# Altium integrated library 3 Pin Terminal Block HDR 5MM THT RA 231-433_001-000.IntLib: 1 symbol
Pins are listed as number, name and electrical type; pins without a type are passive.

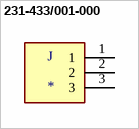
[diagram p0: symbol 231-433/001-000]

## 231-433/001-000
designator J
3 Position Header5 mm Pitch Euro Style Terminal Block; MP: 231-433/001-000; MF: WAGO; SnapEDA_Link: https://www.snapeda.com/parts/231-433/001-000/WAGO/view-part/482062/?ref=snap; Package: None; Availability: Unavailable; Price: None; Value: *
footprint WAGO_231-433/001-000
pins: 1, 2, 3